# Altium footprint library Sucaiku.PcbLib: 51 footprints (part 4 of 4)
Each footprint in its own frame and in the unit in brackets; x right, y up, seen from the top. Pads: shape width x height; smd on the part's side, far side on the other; paste and mask are expansions set on the pad; w line width, h text height; cw(c..) or ccw(c..) is an arc to the next point about the centre after c.
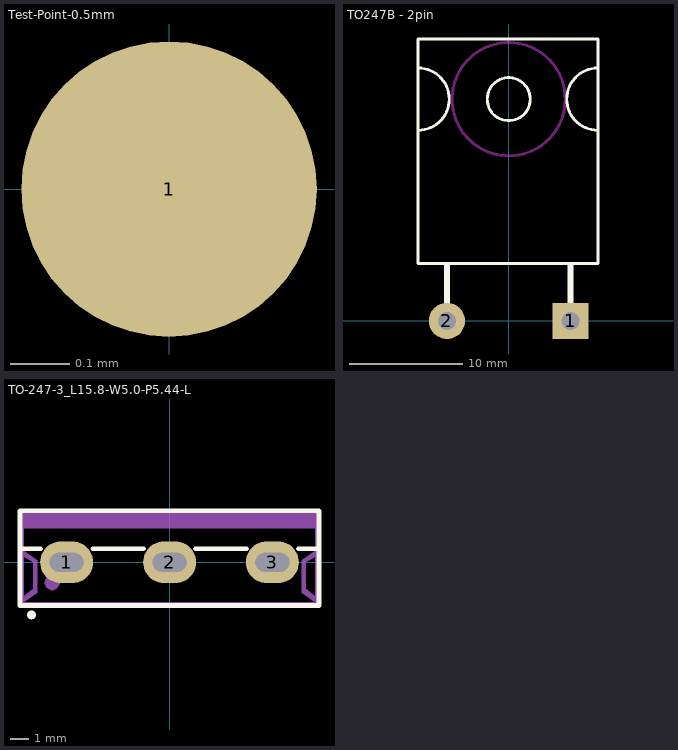
[diagram p3: the footprints below, top view; thin cyan lines are the x and y axes]

## Test-Point-0.5mm [mil]
pads (1):
  round 19.7 smd: 1(0,0)

## TO247B - 2pin [mm] "247，2脚卧式封装"
pads (2):
  rect 3.2x3.2 hole 1.6: 1(5.461,0)
  round 3.2 hole 1.6: 2(-5.461,0)
Top Overlay:
  circle w0.254: c0,19.58 r1.9
  lines w0.254: -8.001,16.83 ccw(c-8.001,19.58) -8.001,22.33 ; 7.874,16.83 cw(c7.874,19.58) 7.874,22.33 ; -8.001,5.08 -8.001,24.892 7.874,24.892 7.874,5.08 -8.001,5.08
  lines w0.508: -5.461,1.397 -5.461,4.953 ; 5.461,1.397 5.461,4.953
Keep-Out Layer:
  circle w0.254: c0,19.58 r5

## TO-247-3_L15.8-W5.0-P5.44-L [mil]
pads (3):
  oval 110.2x86.6 hole 39.4 slot 70.9 at 0 deg paste-99999 mask+2: 1(-214.2,0) 2(0,0) 3(214.1,0)
Top Overlay:
  lines w9.4: -292.1,-109.5 -291.8,-107.7 -290.8,-106.1 -289.2,-105.1 -287.4,-104.8 -285.6,-105.1 -284.1,-106.1 -283.1,-107.7 -282.7,-109.5 -283.1,-111.3 -284.1,-112.8 -285.6,-113.8 -287.4,-114.2 -289.2,-113.8 -290.8,-112.8 -291.8,-111.3 -292.1,-109.5
  lines w10: -311.1,28 -268.5,28 ; -159.9,28 -54.3,28 ; 54.2,28 159.9,28 ; 268.4,28 308.7,28 311,25.7 ; -311.1,-89.8 -311.1,107.1 311,107.1 311,-89.8 -311.1,-89.8
Mechanical 6:
  region: 311,102.3 311,70.8 -307.1,70.8 -307.1,98.4
  region: 303.1,-82.7 303.1,-70.9 283.4,-55.2 283.4,0 303.1,11.8 303.1,23.6 275.6,3.9 275.6,-63
  region: -303.2,-82.7 -303.2,-70.9 -283.5,-55.2 -283.5,0 -303.2,11.8 -303.2,23.6 -275.6,3.9 -275.6,-63
  region: 311,-90.6 311,98.4 303.1,98.4 303.1,-90.6
  region: 311,-90.6 -311.1,-90.6 -311.1,-82.7 311,-82.7
  region: -311.1,98.4 -311.1,-90.6 -303.2,-90.6 -303.2,98.4
  region: -311.1,106.3 311,106.3 311,98.4 -311.1,98.4
  lines w15.7: -252,-42.6 -251.6,-40.1 -250.5,-37.9 -248.7,-36.2 -246.5,-35.1 -244.1,-34.7 -241.7,-35.1 -239.5,-36.2 -237.8,-37.9 -236.6,-40.1 -236.2,-42.6 -236.6,-45 -237.8,-47.2 -239.5,-48.9 -241.7,-50 -244.1,-50.4 -246.5,-50 -248.7,-48.9 -250.5,-47.2 -251.6,-45 -252,-42.6
Mechanical 7:
  lines w2: -311.1,-89.8 311,-89.8 311,107.1 -311.1,107.1 -311.1,-89.8
Mechanical 8:
  region: -308.7,-89.8 -309.1,-91.1 -310.1,-91.9 -311.4,-92.1 -312.6,-91.6 -313.3,-90.5 -313.3,-89.1 -312.6,-88 -311.4,-87.5 -310.1,-87.6 -309.1,-88.5
Mechanical 9:
  region: -239,12.4 -189.4,12.4 -189.4,-12.4 -239,-12.4
  region: -24.8,12.4 24.8,12.4 24.8,-12.4 -24.8,-12.4
  region: 189.3,12.4 238.9,12.4 238.9,-12.4 189.3,-12.4